# Altium schematic symbol library 数控直流电源.SchLib: 6 symbols
Pins are listed as number, name and electrical type; pins without a type are passive.

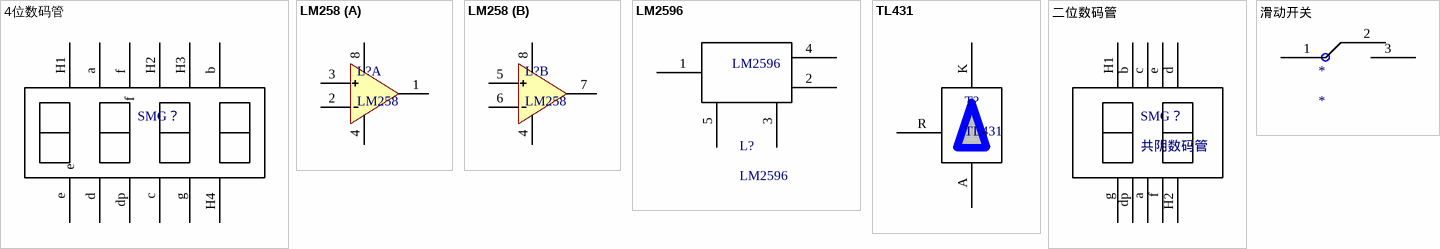
[diagram p0: symbols 4位数码管 to 滑动开关]

## 4位数码管
designator SMG？, comment 数码管  (value not drawn)
footprint 4IN1B - 0.4英寸
pins: a, b, c, d, dp d, e, f, g, H1, H2, H3, H4

## LM258
designator L?
footprint DIP8
part A pins: 1, 2, 3, 4, 8
part B pins: 4, 5, 6, 7, 8

## LM2596
designator L?
footprint LM2596
pins: 1, 2, 3, 4, 5

## TL431
designator T?
footprint TL431
pins: A, K, R

## 二位数码管
designator SMG？, comment 共阴数码管
footprint 0.36英寸2位数码管
pins: a, b, c, d, dp, e, f, g, H1, H2

## 滑动开关
designator *
footprint 滑动开关 (SS12D10)
pins: 1, 2, 3